# EAGLE library part TERMBLOCK-8X0.1 (library TrackerBase2)
Term Block 8x0.1" 20-30AWG 6A 125V Max Side Entry On Shore Technology Inc. OSTVN08A150 TERM BLK 8P SIDE ENT 2.54MM PCB 8 Position Wire to Board Terminal Block Horizontal with Board 0.100" (2.54mm) Through Hole https://www.digikey.com/product-detail/en/on-shore-technology-inc/OSTVN08A150/ED10566-ND/1588868
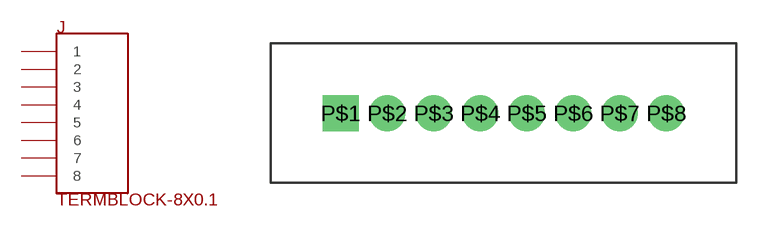
[diagram p5: symbol with the pads of TERMBLOCK-8X0.1; footprint TERMBLOCK-8X0.1]

Designator prefix J

## TERMBLOCK-8X0.1  [TERMBLOCK-8X0.1]
P$1  1  pas
P$2  2  pas
P$3  3  pas
P$4  4  pas
P$5  5  pas
P$6  6  pas
P$7  7  pas
P$8  8  pas

## Footprint TERMBLOCK-8X0.1 (pad centres in mm)
drill 1.321 square: P$1 -8.89,0
drill 1.321: P$2 -6.35,0; P$3 -3.81,0; P$4 -1.27,0; P$5 1.27,0; P$6 3.81,0; P$7 6.35,0; P$8 8.89,0